# EAGLE library part 74HC00 (library wheat)
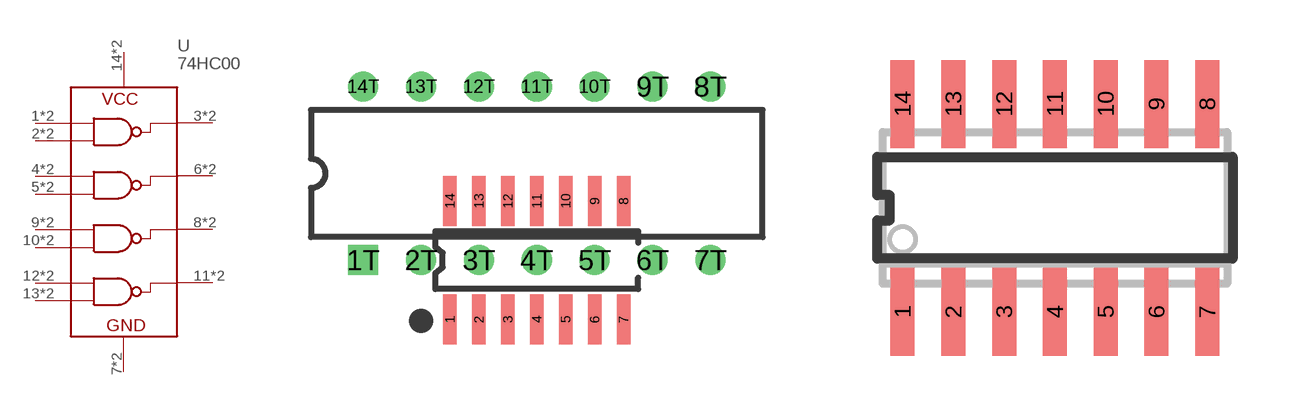
[diagram p174: symbol with the pads of SO_DIP14; footprints SO_DIP14, SO14]

Designator prefix U

## 74HC00  [SO_DIP14]
1  1A  in
1T  1A  in
2  1B  in
2T  1B  in
3  1Y  out
3T  1Y  out
4  2A  in
4T  2A  in
5  2B  in
5T  2B  in
6  2Y  out
6T  2Y  out
7  GND  pas
7T  GND  pas
8  3Y  out
8T  3Y  out
9  3A  in
9T  3A  in
10  3B  in
10T  3B  in
11  4Y  out
11T  4Y  out
12  4A  in
12T  4A  in
13  4B  in
13T  4B  in
14  VCC  pas
14T  VCC  pas

## 74HC00D  [SO14]
1  1A  in
2  1B  in
3  1Y  out
4  2A  in
5  2B  in
6  2Y  out
7  GND  pas
8  3Y  out
9  3B  in
10  3A  in
11  4Y  out
12  4B  in
13  4A  in
14  VCC  pas

## Footprint SO_DIP14 (pad centres in mm)
smd 0.6 x 2.2: 1 -3.81,-2.6; 2 -2.54,-2.6; 3 -1.27,-2.6; 4 0,-2.6; 5 1.27,-2.6; 6 2.54,-2.6; 7 3.81,-2.6; 8 3.81,2.6; 9 2.54,2.6; 10 1.27,2.6; 11 0,2.6; 12 -1.27,2.6; 13 -2.54,2.6; 14 -3.81,2.6
drill 0.813 square: 1T -7.62,0
drill 0.813: 2T -5.08,0; 3T -2.54,0; 4T 0,0; 5T 2.54,0; 6T 5.08,0; 7T 7.62,0; 8T 7.62,7.62; 9T 5.08,7.62; 10T 2.54,7.62; 11T 0,7.62; 12T -2.54,7.62; 13T -5.08,7.62; 14T -7.62,7.62

## Footprint SO14 (pad centres in mm)
SOIC14
smd 0.6 x 2.2: 1 -3.81,-2.6; 2 -2.54,-2.6; 3 -1.27,-2.6; 4 0,-2.6; 5 1.27,-2.6; 6 2.54,-2.6; 7 3.81,-2.6; 8 3.81,2.6; 9 2.54,2.6; 10 1.27,2.6; 11 0,2.6; 12 -1.27,2.6; 13 -2.54,2.6; 14 -3.81,2.6